# Altium schematic symbol library SN74LVC1G08DCKRG4.SchLib: 1 symbol
Pins are listed as number, name and electrical type; pins without a type are passive.

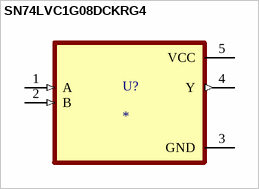
[diagram p0: symbol SN74LVC1G08DCKRG4]

## SN74LVC1G08DCKRG4
designator U?
1-ch, 2-input 1.65-V to 5.5-V 32 mA drive strength AND gate; MF: Texas Instruments; MP: SN74LVC1G08DCKRG4; SnapEDA_Link: https://www.snapeda.com/parts/SN74LVC1G08DCKRG4/Texas+Instruments/view-part/?ref=snap; Package: SC70-5 Texas Instruments; Value: *; Check_prices: https://www.snapeda.com/parts/SN74LVC1G08DCKRG4/Texas+Instruments/view-part/?ref=eda
pins: 1 A (in), 2 B (in), 3 GND (power), 4 Y (out), 5 VCC (power)